# Altium schematic symbol library TMP451.SchLib: 1 symbol
Pins are listed as number, name and electrical type; pins without a type are passive.

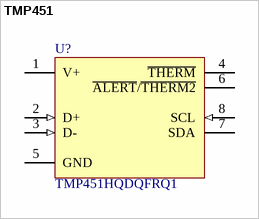
[diagram p0: symbol TMP451]

## TMP451
designator U?, comment TMP451HQDQFRQ1
TMP451HQDQFRQ1, Automotive Temperature Sensor
pins: 1 V+ (power), 2 D+ (in), 3 D- (in), 4 ~{THERM} (oc), 5 GND (power), 6 ~{ALERT}/~{THERM2} (oc), 7 SDA (oc), 8 SCL (in)